# EAGLE library part B6B-PH (library con-jst-ph)
JST PH series header 2.00mm pitch disconnectable crimp style connectors, vertical (side entry type), 6 pins
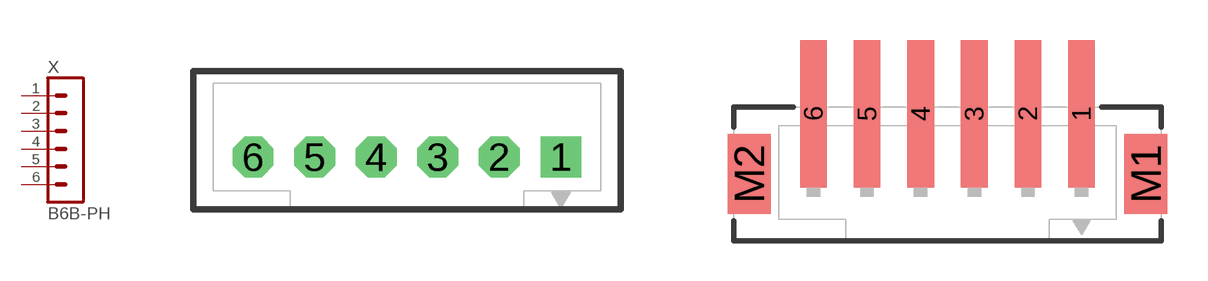
[diagram p0: symbol with the pads of B6B-PH-KL-S; footprints B6B-PH-KL-S, B6B-PH-SM4-TB]

Designator prefix X

## B6B-PH-KL-S  [B6B-PH-KL-S]
1  1  pas
2  2  pas
3  3  pas
4  4  pas
5  5  pas
6  6  pas

## B6B-PH-SM4-TB  [B6B-PH-SM4-TB]
Pads as for B6B-PH-KL-S

## Footprint B6B-PH-KL-S (pad centres in mm)
JST PH series header 2.00mm pitch disconnectable crimp style connectors, through-hole vertical (top entry type), 6 pins
drill 0.7 pad 1.321 square: 1 5,0
drill 0.7 pad 1.321 octagon: 2 3,0; 3 1,0; 4 -1,0; 5 -3,0; 6 -5,0

## Footprint B6B-PH-SM4-TB (pad centres in mm)
JST PH series header 2.00mm pitch disconnectable crimp style connectors, SMT vertical (top entry type), 6 pins
smd 1 x 5.5: 1 5,0; 2 3,0; 3 1,0; 4 -1,0; 5 -3,0; 6 -5,0
smd 1.6 x 3: M1 7.4,-2.25; M2 -7.4,-2.25